# Altium footprint library Capacitor.PcbLib: 1 footprints
Each footprint in its own frame and in the unit in brackets; x right, y up, seen from the top. Pads: shape width x height; smd on the part's side, far side on the other; paste and mask are expansions set on the pad; w line width, h text height; cw(c..) or ccw(c..) is an arc to the next point about the centre after c.
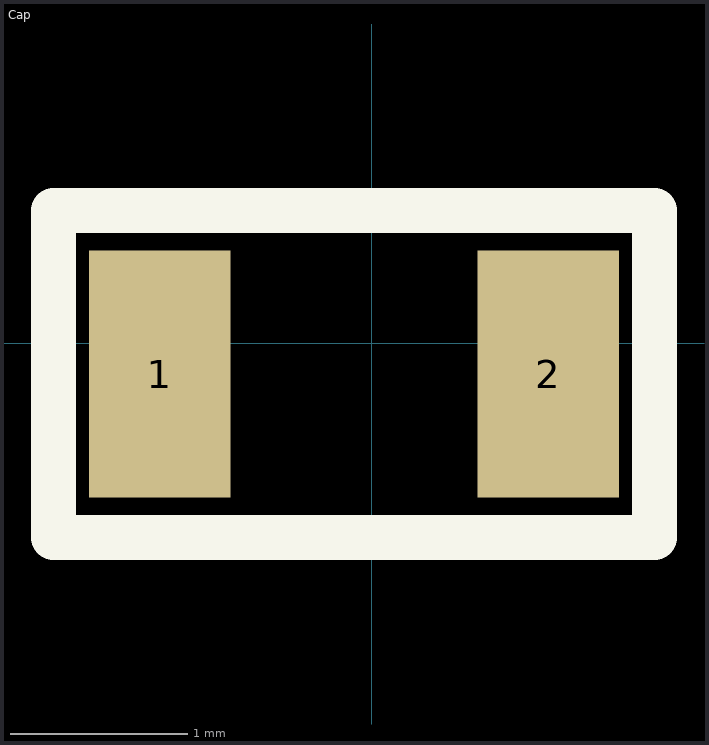
[diagram p0: the footprint, top view; thin cyan lines are the x and y axes]

## Cap [mm]
pads (2):
  rect 0.8x1.4 smd: 1(-1.2,-0.175) 2(1,-0.175)
Top Overlay:
  lines w0.254: -1.8,-1.1 1.6,-1.1 1.6,0.75 -1.8,0.75 -1.8,-1.1
3D body "L-M21PN1R0MEHD--3DModel-STEP-231308.STEP": height 0.8, standoff 0, extent -1.1,-0.8 0.9,0.45